# EAGLE library part PIC18F25K20 (library My Library-adm)
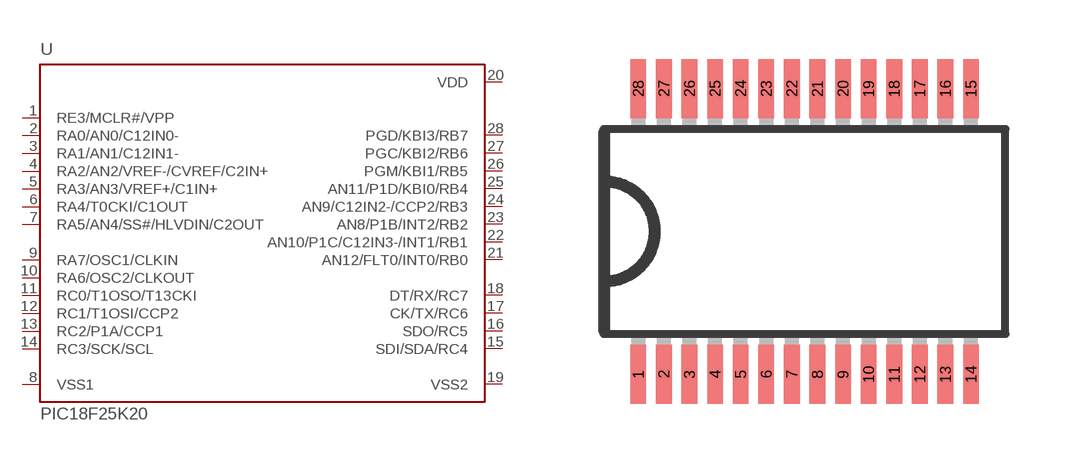
[diagram p24: symbol with the pads of SSOP28; footprint SSOP28]

Designator prefix -

## PIC18F25K20  [SSOP28]
1  RE3/MCLR#/VPP  in
2  RA0/AN0/C12IN0-
3  RA1/AN1/C12IN1-
4  RA2/AN2/VREF-/CVREF/C2IN+
5  RA3/AN3/VREF+/C1IN+
6  RA4/T0CKI/C1OUT
7  RA5/AN4/SS#/HLVDIN/C2OUT
8  VSS1  pwr
9  RA7/OSC1/CLKIN
10  RA6/OSC2/CLKOUT
11  RC0/T1OSO/T13CKI
12  RC1/T1OSI/CCP2
13  RC2/P1A/CCP1
14  RC3/SCK/SCL
15  SDI/SDA/RC4
16  SDO/RC5
17  CK/TX/RC6
18  DT/RX/RC7
19  VSS2  pwr
20  VDD  pwr
21  AN12/FLT0/INT0/RB0
22  AN10/P1C/C12IN3-/INT1/RB1
23  AN8/P1B/INT2/RB2
24  AN9/C12IN2-/CCP2/RB3
25  AN11/P1D/KBI0/RB4
26  PGM/KBI1/RB5
27  PGC/KBI2/RB6
28  PGD/KBI3/RB7

## Footprint SSOP28 (pad centres in mm)
Shrink Small Outline Package package type SS
smd 0.4 x 1.5: 1 -4.225,-3.625; 2 -3.575,-3.625; 3 -2.925,-3.625; 4 -2.275,-3.625; 5 -1.625,-3.625; 6 -0.975,-3.625; 7 -0.325,-3.625; 8 0.325,-3.625; 9 0.975,-3.625; 10 1.625,-3.625; 11 2.275,-3.625; 12 2.925,-3.625; 13 3.575,-3.625; 14 4.225,-3.625; 15 4.225,3.625; 16 3.575,3.625; 17 2.925,3.625; 18 2.275,3.625; 19 1.625,3.625; 20 0.975,3.625; 21 0.325,3.625; 22 -0.325,3.625; 23 -0.975,3.625; 24 -1.625,3.625; 25 -2.275,3.625; 26 -2.925,3.625; 27 -3.575,3.625; 28 -4.225,3.625